# EAGLE library part MMA8653FC (library gpn14_smd)
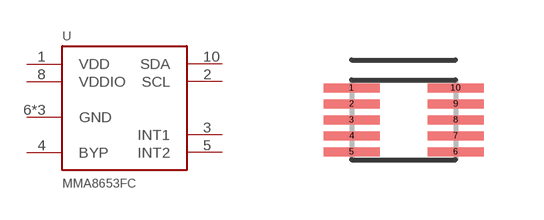
[diagram p0: symbol with the pads of 2X2_DFN_LONGPADS; footprint 2X2_DFN_LONGPADS]

Designator prefix -

## MMA8653FC  [2X2_DFN_LONGPADS]
1  VDD  pwr
2  SCL
3  INT1  out
4  BYP  pas
5  INT2  out
6  GND
7  GND
8  VDDIO  pwr
9  GND
10  SDA

## Footprint 2X2_DFN_LONGPADS (pad centres in mm)
smd 1.4 x 0.225: 1 -1.3,0.8; 2 -1.3,0.4; 3 -1.3,0; 4 -1.3,-0.4; 5 -1.3,-0.8; 6 1.3,-0.8; 7 1.3,-0.4; 8 1.3,0; 9 1.3,0.4; 10 1.3,0.8